# EAGLE library part MINI-PCIE (library BaseApp)
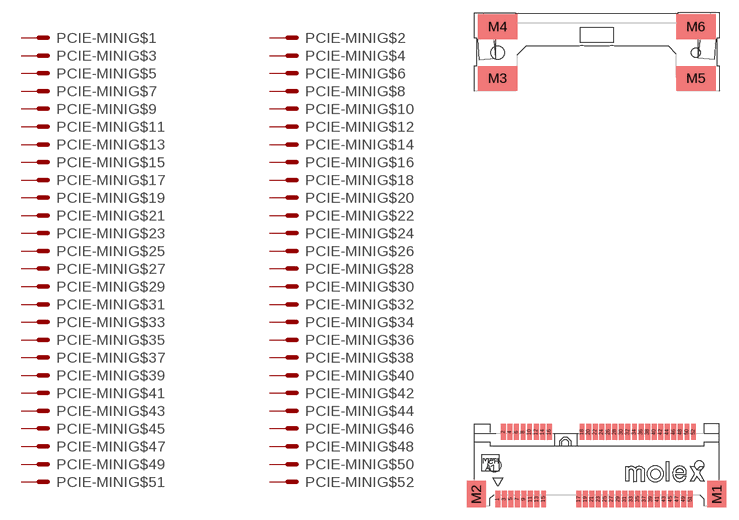
[diagram p151: symbol with the pads of MINI-PCIE; footprint MINI-PCIE]

Designator prefix PCIE-MINI; gates G$1=M G$2=M G$3=M G$4=M G$5=M G$6=M G$7=M G$8=M G$9=M G$10=M G$11=M G$12=M G$13=M G$14=M G$15=M G$16=M G$17=M G$18=M G$19=M G$20=M G$21=M G$22=M G$23=M G$24=M G$25=M G$26=M G$27=M G$28=M G$29=M G$30=M G$31=M G$32=M G$33=M G$34=M G$35=M G$36=M G$37=M G$38=M G$39=M G$40=M G$41=M G$42=M G$43=M G$44=M G$45=M G$46=M G$47=M G$48=M G$49=M G$50=M G$51=M G$52=M

## MINI-PCIE (DIGIKEY: WM7125CT-ND , WM3733CT-ND; PRICE_PER_UNIT: 6.08)  [MINI-PCIE]
1  G$1:S  pas
2  G$2:S  pas
3  G$3:S  pas
4  G$4:S  pas
5  G$5:S  pas
6  G$6:S  pas
7  G$7:S  pas
8  G$8:S  pas
9  G$9:S  pas
10  G$10:S  pas
11  G$11:S  pas
12  G$12:S  pas
13  G$13:S  pas
14  G$14:S  pas
15  G$15:S  pas
16  G$16:S  pas
17  G$17:S  pas
18  G$18:S  pas
19  G$19:S  pas
20  G$20:S  pas
21  G$21:S  pas
22  G$22:S  pas
23  G$23:S  pas
24  G$24:S  pas
25  G$25:S  pas
26  G$26:S  pas
27  G$27:S  pas
28  G$28:S  pas
29  G$29:S  pas
30  G$30:S  pas
31  G$31:S  pas
32  G$32:S  pas
33  G$33:S  pas
34  G$34:S  pas
35  G$35:S  pas
36  G$36:S  pas
37  G$37:S  pas
38  G$38:S  pas
39  G$39:S  pas
40  G$40:S  pas
41  G$41:S  pas
42  G$42:S  pas
43  G$43:S  pas
44  G$44:S  pas
45  G$45:S  pas
46  G$46:S  pas
47  G$47:S  pas
48  G$48:S  pas
49  G$49:S  pas
50  G$50:S  pas
51  G$51:S  pas
52  G$52:S  pas

## Footprint MINI-PCIE (pad centres in mm)
smd 0.6 x 2: 1 0.4,-4.1; 2 1.1,4.1; 3 1.2,-4.1; 4 1.9,4.1; 5 2,-4.1; 6 2.7,4.1; 7 2.8,-4.1; 8 3.5,4.1; 9 3.6,-4.1; 10 4.3,4.1; 11 4.4,-4.1; 12 5.1,4.1; 13 5.2,-4.1; 14 5.9,4.1; 15 6,-4.1; 16 6.7,4.1; 17 10.3,-4.1; 18 10.7,4.1; 19 11.1,-4.1; 20 11.5,4.1; 21 11.9,-4.1; 22 12.3,4.1; 23 12.7,-4.1; 24 13.1,4.1; 25 13.5,-4.1; 26 13.9,4.1; 27 14.3,-4.1; 28 14.7,4.1; 29 15.1,-4.1; 30 15.5,4.1; 31 15.9,-4.1; 32 16.3,4.1; 33 16.7,-4.1; 34 17.1,4.1; 35 17.5,-4.1; 36 17.9,4.1; 37 18.3,-4.1; 38 18.7,4.1; 39 19.1,-4.1; 40 19.5,4.1; 41 19.9,-4.1; 42 20.3,4.1; 43 20.7,-4.1; 44 21.1,4.1; 45 21.5,-4.1; 46 21.9,4.1; 47 22.3,-4.1; 48 22.7,4.1; 49 23.1,-4.1; 50 23.5,4.1; 51 23.9,-4.1; 52 24.3,4.1
smd 2.3 x 3.2: M1 27.15,-3.5; M2 -2.2,-3.5
smd 4.8 x 3: M3 0.4,47.25; M4 0.4,53.55; M5 24.6,47.25; M6 24.6,53.55
hole 1.6 at 0,0
hole 1.1 at 25,0
hole 1.6 at 0.4,50.4
hole 1.1 at 24.6,50.4